# Altium footprint library Ryan_Lee_Date030620.PcbLib: 2 footprints
Each footprint in its own frame and in the unit in brackets; x right, y up, seen from the top. Pads: shape width x height; smd on the part's side, far side on the other; paste and mask are expansions set on the pad; w line width, h text height; cw(c..) or ccw(c..) is an arc to the next point about the centre after c.
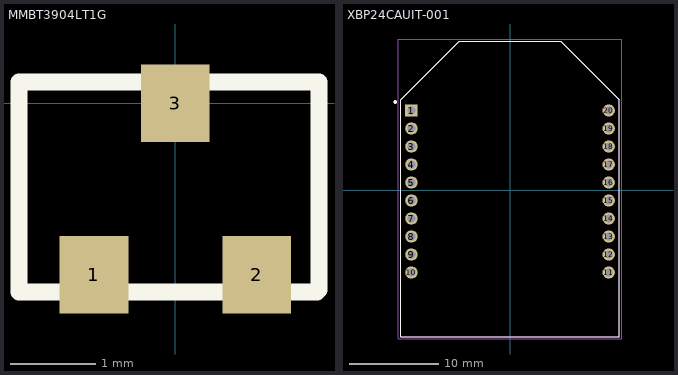
[diagram p0: the footprints below, top view; thin cyan lines are the x and y axes]

## MMBT3904LT1G [mm]
pads (3):
  rect 0.8x0.9 smd: 1(-0.95,-2) 2(0.95,-2) 3(0,0)
Top Overlay:
  lines w0.2: -1.825,-2.2 -1.825,0.25 1.675,0.25 1.675,-2.175 1.65,-2.2 -1.825,-2.2

## XBP24CAUIT-001 [mil]
pads (20):
  rect 54.25x54.25 hole 34.25: 1(-433,349.5)
  round 54.25 hole 34.25: 2(-433,270.5) 3(-433,191.5) 4(-433,112.5) 5(-433,33.5) 6(-433,-45.5) 7(-433,-124.5) 8(-433,-203.5) 9(-433,-282.5) 10(-433,-361.5) 11(433,-361.5) 12(433,-282.5) 13(433,-203.5) 14(433,-124.5) 15(433,-45.5) 16(433,33.5) 17(433,112.5) 18(433,191.5) 19(433,270.5) 20(433,349.5)
Top Overlay:
  circle w7.87: c-503.94,386.89 r3.94
  lines w5: -480,-643.5 -480,396.5 -222.83,653.5 222.83,653.5 480,396.5 480,-643.5 -480,-643.5
Mechanical 4:
  circle w7.87: c-503.94,386.89 r3.94
  circle w7.87: c-503.94,386.89 r3.94
  lines w5: -480,-643.5 -480,396.5 ; -480,-643.5 480,-643.5 ; -480,-643.5 -480,396.5 ; -480,-643.5 480,-643.5 ; -480,396.5 -222.83,653.5 ; -480,396.5 -222.83,653.5 ; -222.83,653.5 222.83,653.5 ; -222.83,653.5 222.83,653.5 ; 222.83,653.5 480,396.5 ; 222.83,653.5 480,396.5 ; 480,-643.5 480,396.5 ; 480,-643.5 480,396.5
Mechanical 16:
  lines w1.97: -489.84,-653.34 489.84,-653.34 489.84,663.34 -489.84,663.34 -489.84,-653.34